# Altium schematic symbol library WA-BCPH.SchLib: 4 symbols
Pins are listed as number, name and electrical type; pins without a type are passive.

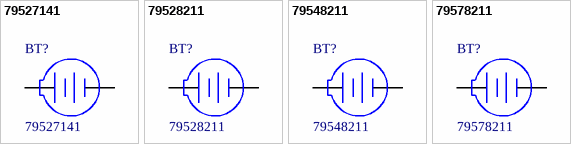
[diagram p0: symbols 79527141 to 79578211]

## 79527141
designator BT?
WA-BCPH Battery Holder, SMT, battery type 2032, LCP, White; Manufacturer: Wurth Elektronik; Battery Type: 2032; Manufacturer Part Number: 79527141; Category: Battery Holders; Match Code: WA-BCPH; ComponentLink1Description: Website Link; ComponentLink1URL: https://www.we-online.com/redexpert/article/79527141?ad; ComponentLink2Description: Datasheet Link; ComponentLink2URL: https://www.we-online.com/redexpert/spec/79527141?ad; Mount: Surface Mount; Operating Temperature Min: -40°C; Operating Temperature Max: 105°C; Packaging: Tape and Reel; Base Color: White; Base Material: LCP
footprint 79527141
pins: 1 +, 2 -

## 79528211
designator BT?
WA-BCPH Battery Holder, THT, battery type 2025 / 2032, PBT, Black; Manufacturer: Wurth Elektronik; Manufacturer Part Number: 79528211; Category: Battery Holders; Match Code: WA-BCPH; ComponentLink1Description: Website Link; ComponentLink1URL: https://www.we-online.com/redexpert/article/79528211?ad; ComponentLink2Description: Datasheet Link; ComponentLink2URL: https://www.we-online.com/redexpert/spec/79528211?ad; Mount: Through Hole; Operating Temperature Min: -40°C; Operating Temperature Max: 105°C; Packaging: Tray; Base Color: Black; Base Material: PBT; Battery Type: 2025 / 2032
footprint 79528211
pins: 1 +, 2 -

## 79548211
designator BT?
WA-BCPH Battery Holder, THT, battery type 2032, PA66, Black; Manufacturer: Wurth Elektronik; Battery Type: 2032; Manufacturer Part Number: 79548211; Category: Battery Holders; Match Code: WA-BCPH; ComponentLink1Description: Website Link; ComponentLink1URL: https://www.we-online.com/redexpert/article/79548211?ad; ComponentLink2Description: Datasheet Link; ComponentLink2URL: https://www.we-online.com/redexpert/spec/79548211?ad; Mount: Through Hole; Operating Temperature Min: -40°C; Operating Temperature Max: 105°C; Packaging: Bag; Base Color: Black; Base Material: PA66
footprint 79548211
pins: 1 +, 2 -

## 79578211
designator BT?
WA-BCPH Battery Holder, THT, battery type 2450, PBT, Black; Manufacturer: Wurth Elektronik; Battery Type: 2450; Manufacturer Part Number: 79578211; Category: Battery Holders; Match Code: WA-BCPH; ComponentLink1Description: Website Link; ComponentLink1URL: https://www.we-online.com/redexpert/article/79578211?ad; ComponentLink2Description: Datasheet Link; ComponentLink2URL: https://www.we-online.com/redexpert/spec/79578211?ad; Mount: Through Hole; Operating Temperature Min: -40°C; Operating Temperature Max: 105°C; Packaging: Bag; Base Color: Black; Base Material: PBT
footprint 79578211
pins: 1 +, 2 -